# Altium footprint library PcbLib2.PcbLib: 7 footprints
Each footprint in its own frame and in the unit in brackets; x right, y up, seen from the top. Pads: shape width x height; smd on the part's side, far side on the other; paste and mask are expansions set on the pad; w line width, h text height; cw(c..) or ccw(c..) is an arc to the next point about the centre after c.
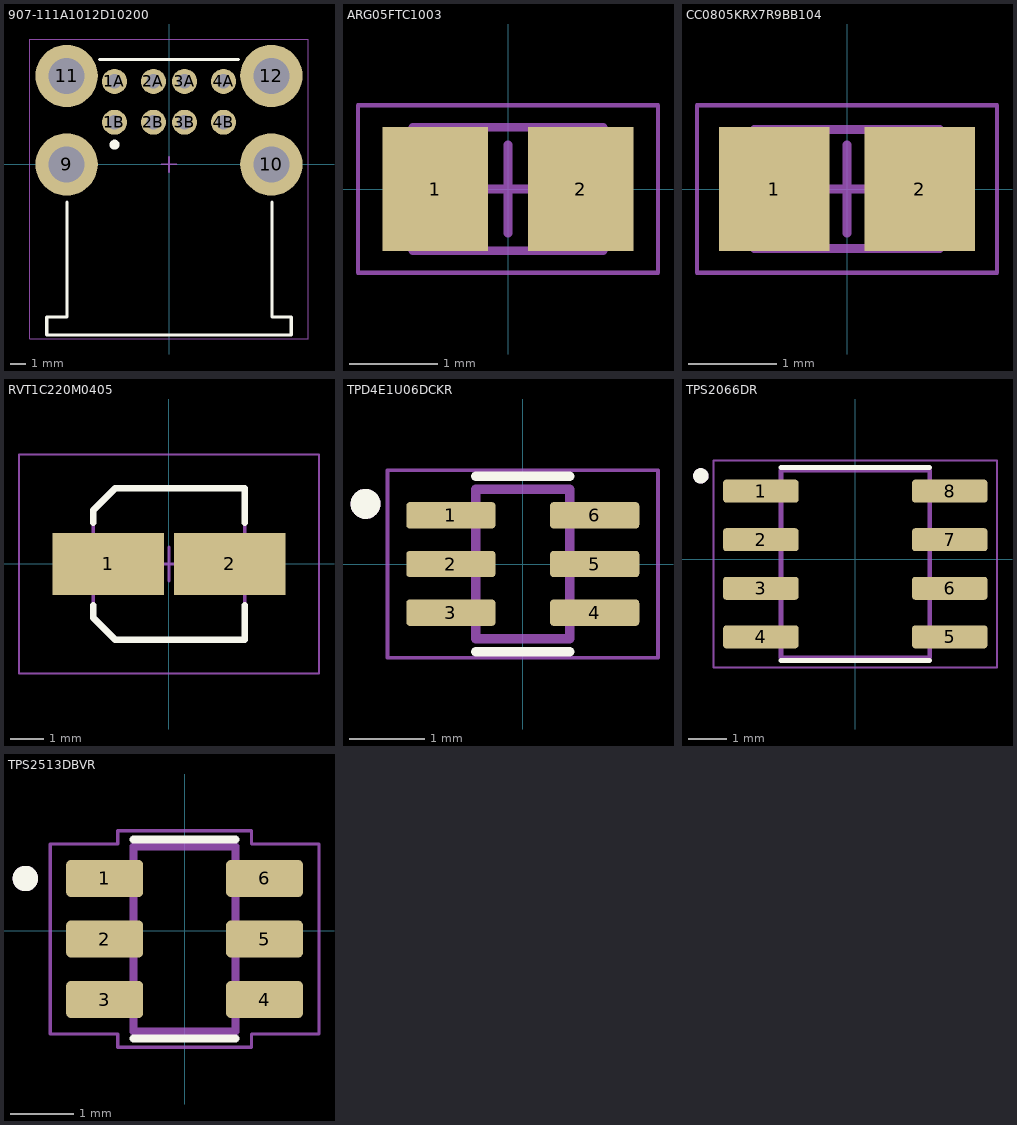
[diagram p0: the footprints below, top view; thin cyan lines are the x and y axes]

## 907-111A1012D10200 [mm]
pads (12):
  round 1.6 hole 0.92: 1A(-3.5,5.33) 1B(-3.5,2.71) 2A(-1,5.33) 2B(-1,2.71) 3A(1,5.33) 3B(1,2.71) 4A(3.5,5.33) 4B(3.5,2.71)
  round 4 hole 2.3: 9(-6.57,0) 10(6.57,0) 11(-6.57,5.68) 12(6.57,5.68)
Top Overlay:
  circle w0.4: c-3.495,1.27 r0.12
  lines w0.2: -6.536,-2.413 -6.536,-9.779 -7.849,-9.779 -7.849,-10.947 7.849,-10.947 7.849,-9.779 6.604,-9.779 6.604,-2.413 ; -4.445,6.731 4.445,6.731
Mechanical 15:
  lines w0.05: -8.941,-11.201 8.941,-11.201 8.941,8.052 -8.941,8.052 -8.941,-11.201
  lines w0.1: -0.5,0 0.5,0 ; 0,-0.5 0,0.5
3D body "USB1035-15-P-1-W-B.stp": height 16.17, standoff -3.83, extent -7.862,-11.094 7.864,6.586

## ARG05FTC1003 [mm] "Chip Resistor, 2-Leads, Body 2.00x1.23mm, IPC Medium Density"
height 0.6
pads (2):
  rect 1.2x1.4 smd: 1(-0.825,0) 2(0.825,0)
Mechanical 13:
  lines w0.1: -1.075,-0.7 -1.075,0.7 1.075,0.7 1.075,-0.7 -1.075,-0.7
Mechanical 15:
  lines w0.05: -1.7,-0.95 -1.7,0.95 1.7,0.95 1.7,-0.95 -1.7,-0.95
  lines w0.1: -0.5,0 0.5,0 ; 0,-0.5 0,0.5
3D body "RESC2012X06N.step": height 0.6, standoff 0, extent -1.075,-0.7 1.075,0.7

## CC0805KRX7R9BB104 [mm]
height 0.85
pads (2):
  rect 1.25x1.4 smd: 1(-0.825,0) 2(0.825,0)
Mechanical 13:
  lines w0.1: -1.05,-0.675 -1.05,0.675 1.05,0.675 1.05,-0.675 -1.05,-0.675
Mechanical 15:
  lines w0.05: -1.7,-0.95 -1.7,0.95 1.7,0.95 1.7,-0.95 -1.7,-0.95
  lines w0.1: -0.5,0 0.5,0 ; 0,-0.5 0,0.5
3D body "CC0805KRX7R9BB104.step": height 0.85, standoff 0, extent -1.05,-0.675 1.05,0.675

## RVT1C220M0405 [mm]
height 5.8
pads (2):
  rect 3.3x1.85 smd: 1(-1.8,0) 2(1.8,0)
Top Overlay:
  lines w0.2: -2.25,-1.225 -2.25,-1.587 -1.587,-2.25 2.25,-2.25 2.25,-1.225 ; -2.25,1.225 -2.25,1.587 -1.587,2.25 2.25,2.25 2.25,1.225
Mechanical 13:
  lines w0.1: -2.25,-1.587 -1.587,-2.25 2.25,-2.25 2.25,2.25 -1.587,2.25 -2.25,1.587 -2.25,-1.587
Mechanical 15:
  lines w0.05: -4.45,-3.25 -4.45,3.25 4.45,3.25 4.45,-3.25 -4.45,-3.25
  lines w0.1: -0.5,0 0.5,0 ; 0,-0.5 0,0.5
3D body "CAPAE5043X58M.step": height 5.8, standoff 0, extent -2.5,-2.25 2.5,2.25

## TPD4E1U06DCKR [mm]
pads (6):
  rrect25% 1.19x0.35 smd: 1(-0.96,0.65) 2(-0.96,0) 3(-0.96,-0.65) 4(0.96,-0.65) 5(0.96,0) 6(0.96,0.65)
Top Overlay:
  circle w0.2: c-2.1,0.802 r0.1
  lines w0.127: -0.625,-1.17 0.625,-1.17 ; -0.625,1.17 0.625,1.17
Mechanical 13:
  circle w0.2: c-2.1,0.802 r0.1
  lines w0.127: -0.625,-1 -0.625,1 0.625,1 0.625,-1 -0.625,-1
Mechanical 15:
  lines w0.05: -1.805,-1.25 -1.805,1.25 1.805,1.25 1.805,-1.25 -1.805,-1.25
3D body "TPD4E1U06DCKR.STEP": height 1.1, standoff 0, extent -1.05,-1 1.05,1

## TPS2066DR [mm]
pads (8):
  rrect25% 1.97x0.6 smd: 1(-2.47,1.778) 2(-2.47,0.508) 3(-2.47,-0.762) 4(-2.47,-2.032) 5(2.47,-2.032) 6(2.47,-0.762) 7(2.47,0.508) 8(2.47,1.778)
Top Overlay:
  circle w0.2: c-4.04,2.178 r0.1
  lines w0.127: -1.947,-2.652 1.947,-2.652 ; -1.947,2.398 1.947,2.398
Mechanical 13:
  circle w0.2: c-4.04,2.178 r0.1
  lines w0.127: -1.947,-2.579 1.947,-2.579 1.947,2.325 -1.947,2.325 -1.947,-2.579
Mechanical 15:
  lines w0.05: -3.705,-2.829 3.705,-2.829 3.705,2.575 -3.705,2.575 -3.705,-2.829
3D body "TPS2066DR.STEP": height 1.75, standoff 0, extent -3,-2.577 3,2.323

## TPS2513DBVR [mm]
pads (6):
  rrect25% 1.21x0.58 smd: 1(-1.255,0.823) 2(-1.255,-0.127) 3(-1.255,-1.077) 4(1.255,-1.077) 5(1.255,-0.127) 6(1.255,0.823)
Top Overlay:
  circle w0.2: c-2.5,0.823 r0.1
  lines w0.127: -0.8,-1.687 0.8,-1.687 ; -0.8,1.433 0.8,1.433
Mechanical 13:
  circle w0.2: c-2.5,0.823 r0.1
  lines w0.127: -0.8,-1.577 0.8,-1.577 0.8,1.323 -0.8,1.323 -0.8,-1.577
Mechanical 15:
  lines w0.05: -2.11,-1.617 -1.05,-1.617 -1.05,-1.827 1.05,-1.827 1.05,-1.617 2.11,-1.617 2.11,1.363 1.05,1.363 1.05,1.573 -1.05,1.573 -1.05,1.363 -2.11,1.363 -2.11,-1.617
3D body "TPS2513DBVR.STEP": height 1.45, standoff 0, extent -1.396,-1.577 1.404,1.323